# Altium schematic symbol library SCH - RELAY - DPDT - OMRON G2RL-24 DC12.SCHLIB: 1 symbol
Pins are listed as number, name and electrical type; pins without a type are passive.

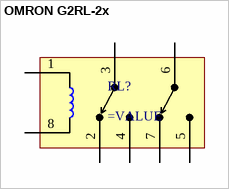
[diagram p0: symbol OMRON G2RL-2x]

## OMRON G2RL-2x
designator RL?
pins: 1, 2, 3, 4, 5, 6, 7, 8
1 alternate drawing of the same symbol